# EAGLE library part RIA182-06 (library con-ria182)
Gewinkelter Wannenstecker 6-polig Rastermaß: 3,5mm Lötstift / Steckerstift: 1x1mm Bohrung: 1,5mm Bemessungsstrom: 5A Nennquerschnitt Stecker: 1,5qmm eindrähtig / 1qmm feinstdrähtig
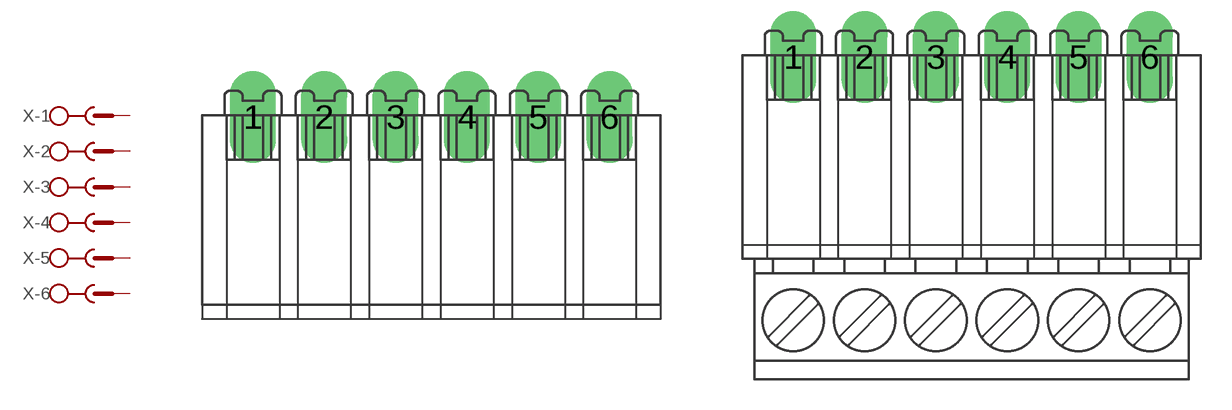
[diagram p0: symbol with the pads of RIA182-06; footprints RIA182-06, RIA182-169-06]

Designator prefix X; gates -1=SK -2=SK -3=SK -4=SK -5=SK -6=SK

## RIA182-06  [RIA182-06]
1  -1:SK  pas
2  -2:SK  pas
3  -3:SK  pas
4  -4:SK  pas
5  -5:SK  pas
6  -6:SK  pas

## RIA182-06-169  [RIA182-169-06]
Pads as for RIA182-06

## Footprint RIA182-06 (pad centres in mm)
drill 1.5 long: 1 -7,0; 2 -3.5,0; 3 0,0; 4 3.5,0; 5 7,0; 6 10.5,0

## Footprint RIA182-169-06 (pad centres in mm)
mit Stecker RIA 169
drill 1.5 long: 1 -7,0; 2 -3.5,0; 3 0,0; 4 3.5,0; 5 7,0; 6 10.5,0